# Altium footprint library hri_hand.PcbLib: 12 footprints
Each footprint in its own frame and in the unit in brackets; x right, y up, seen from the top. Pads: shape width x height; smd on the part's side, far side on the other; paste and mask are expansions set on the pad; w line width, h text height; cw(c..) or ccw(c..) is an arc to the next point about the centre after c.
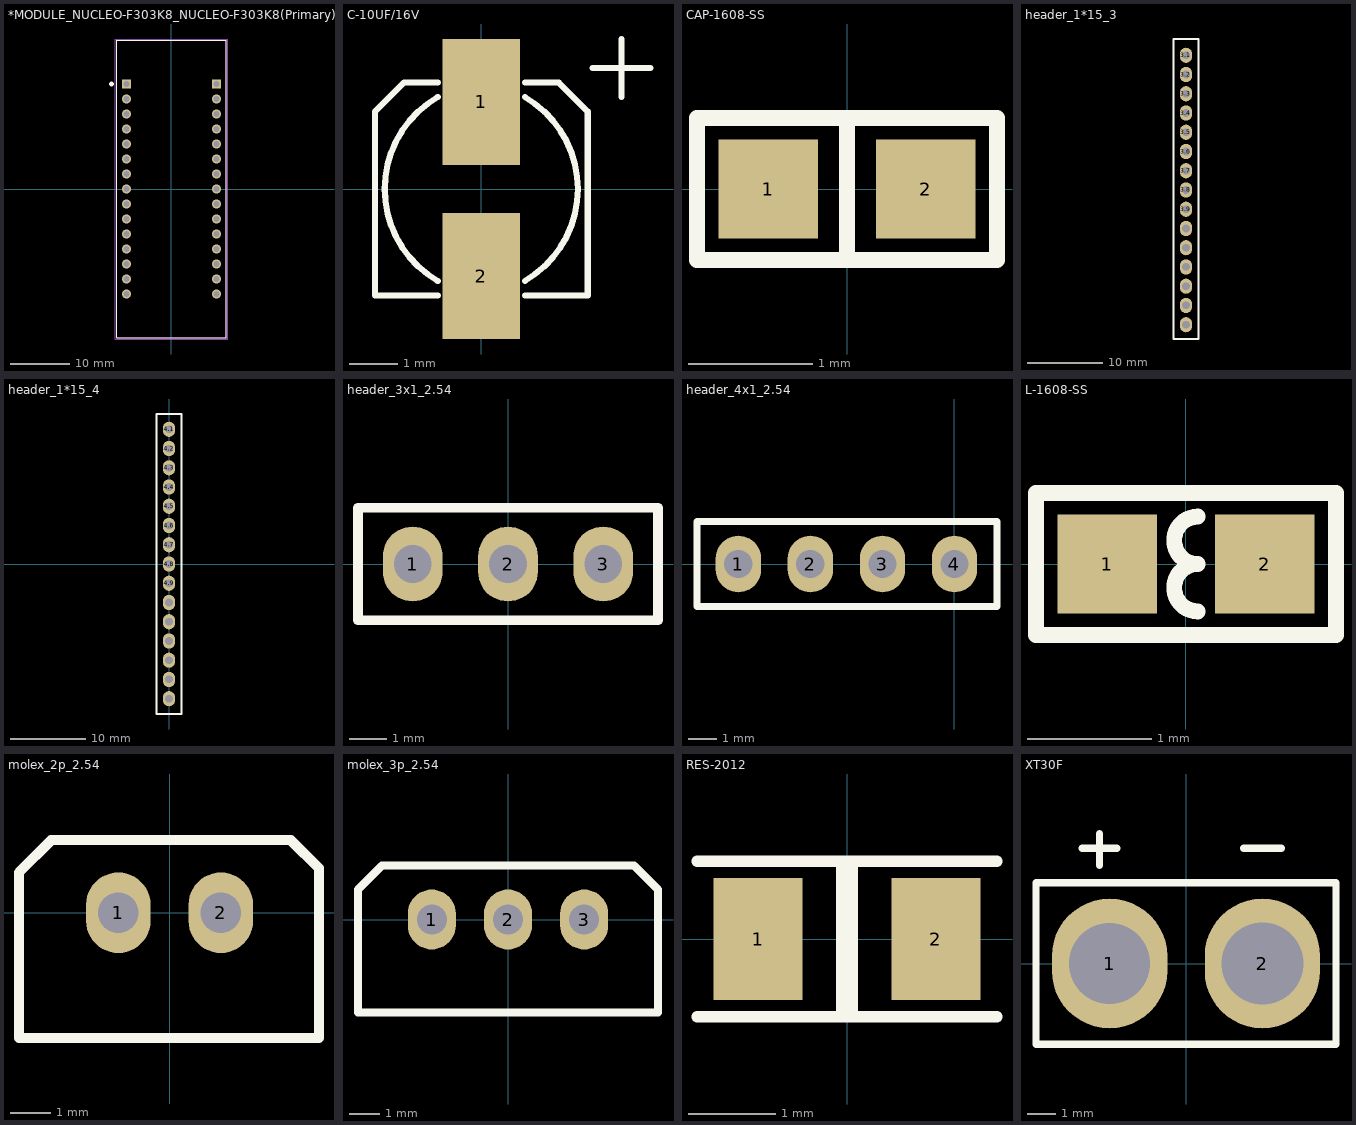
[diagram p0: the footprints below, top view; thin cyan lines are the x and y axes]

## *MODULE_NUCLEO-F303K8_NUCLEO-F303K8(Primary) [mm]
pads (30):
  rect 1.53x1.53 hole 1.02: 3.1(-7.62,17.78) 4.1(7.62,17.78)
  round 1.53 hole 1.02: 3.2(-7.62,15.24) 3.3(-7.62,12.7) 3.4(-7.62,10.16) 3.5(-7.62,7.62) 3.6(-7.62,5.08) 3.7(-7.62,2.54) 3.8(-7.62,0) 3.9(-7.62,-2.54) 3.10(-7.62,-5.08) 3.11(-7.62,-7.62) 3.12(-7.62,-10.16) 3.13(-7.62,-12.7) 3.14(-7.62,-15.24) 3.15(-7.62,-17.78) 4.2(7.62,15.24) 4.3(7.62,12.7) 4.4(7.62,10.16) 4.5(7.62,7.62) 4.6(7.62,5.08) 4.7(7.62,2.54) 4.8(7.62,0) 4.9(7.62,-2.54) 4.10(7.62,-5.08) 4.11(7.62,-7.62) 4.12(7.62,-10.16) 4.13(7.62,-12.7) 4.14(7.62,-15.24) 4.15(7.62,-17.78)
Top Overlay:
  circle w0.4: c-10.16,17.78 r0.2
  lines w0.127: -9.27,-25.145 9.27,-25.145 9.27,25.145 -9.27,25.145 -9.27,-25.145
Mechanical 4:
  lines w0.127: -9.27,-25.145 9.27,-25.145 ; -9.27,-25.145 -9.27,25.145 ; -9.27,-25.145 9.27,-25.145 ; -9.27,-25.145 -9.27,25.145 ; -9.27,25.145 9.27,25.145 ; -9.27,25.145 9.27,25.145 ; 9.27,-25.145 9.27,25.145 ; 9.27,-25.145 9.27,25.145
Mechanical 16:
  lines w0.05: -9.52,-25.395 9.52,-25.395 9.52,25.395 -9.52,25.395 -9.52,-25.395

## C-10UF/16V [mm]
height 5.3
pads (2):
  rect 1.6x2.6 smd: 1(0,1.8) 2(0,-1.8)
Top Overlay:
  lines w0.127: -0.9,-2.2 -2.2,-2.2 -2.2,1.6 -1.6,2.2 -0.9,2.2 ; -0.9,-1.9 cw(c0.2,0) -0.9,1.9 ; 0.9,-2.2 2.2,-2.2 2.2,1.6 1.6,2.2 0.9,2.2 ; 0.9,-1.9 ccw(c-0.2,0) 0.9,1.9 ; 2.3,2.5 3.5,2.5 ; 2.9,1.9 2.9,3.1
3D body "SW3dPS-capacitor size B.STEP": height 5.41, standoff -0.01, extent -2.15,-2.3 2.15,2.3

## CAP-1608-SS [mm]
pads (2):
  rect 0.8x0.8 smd: 1(-0.635,0) 2(0.635,0)
Top Overlay:
  lines w0.127: 0,-0.572 0,0.572 ; -1.206,-0.572 1.206,-0.572 1.206,0.572 -1.206,0.572 -1.206,-0.572
3D body "User Library-0603(1608M) Cap.STEP": height 0.79, standoff 0, extent -1,-0.394 1,0.394

## header_1*15_3 [mm]
pads (15):
  oval 1.6x2 hole 1: 3.1(1270,1270) 3.2(1270,1267.46) 3.3(1270,1264.92) 3.4(1270,1262.38) 3.5(1270,1259.84) 3.6(1270,1257.3) 3.7(1270,1254.76) 3.8(1270,1252.22) 3.9(1270,1249.68) 3.10(1270,1247.14) 3.11(1270,1244.6) 3.12(1270,1242.06) 3.13(1270,1239.52) 3.14(1270,1236.98) 3.15(1270,1234.44)
Top Overlay:
  lines w0.254: 1268.35,1232.55 1268.35,1272.15 1271.65,1272.15 1271.65,1232.55 1268.35,1232.55

## header_1*15_4 [mm]
pads (15):
  oval 1.6x2 hole 1: 4.1(0,17.78) 4.2(0,15.24) 4.3(0,12.7) 4.4(0,10.16) 4.5(0,7.62) 4.6(0,5.08) 4.7(0,2.54) 4.8(0,0) 4.9(0,-2.54) 4.10(0,-5.08) 4.11(0,-7.62) 4.12(0,-10.16) 4.13(0,-12.7) 4.14(0,-15.24) 4.15(0,-17.78)
Top Overlay:
  lines w0.254: -1.65,-19.8 -1.65,19.8 1.65,19.8 1.65,-19.8 -1.65,-19.8

## header_3x1_2.54 [mm]
pads (3):
  oval 1.6x2 hole 1: 1(-2.54,0) 2(0,0) 3(2.54,0)
Top Overlay:
  lines w0.254: -4,-1.5 4,-1.5 4,1.5 -4,1.5 -4,-1.5

## header_4x1_2.54 [mm]
pads (4):
  oval 1.6x2 hole 1: 1(-7.62,0) 2(-5.08,0) 3(-2.54,0) 4(0,0)
Top Overlay:
  lines w0.254: -9.08,-1.5 -1.08,-1.5 1.5,-1.5 1.5,1.5 -1.08,1.5 -9.08,1.5 -9.08,-1.5

## L-1608-SS [mm]
pads (2):
  rect 0.8x0.8 smd: 1(-0.635,0) 2(0.635,0)
Top Overlay:
  lines w0.127: 0.095,-0.381 cw(c0.095,-0.191) 0.095,0 cw(c0.095,0.191) 0.095,0.381 ; -1.206,-0.572 -1.206,0.572 1.206,0.572 1.207,-0.571 -1.206,-0.572
3D body "User Library-Chip InductorINDC1608X95N.STEP": height 0.83, standoff 0.03, extent -0.8,-0.475 0.8,0.475

## molex_2p_2.54 [mm] "MOLEX 5267"
height 6
pads (2):
  oval 1.6x2 hole 1: 1(-1.27,0) 2(1.27,0)
Top Overlay:
  lines w0.254: -3.73,-3.1 -3.73,0 -3.73,1 -2.93,1.8 3,1.8 3.7,1.1 3.7,-2.57 3.7,-3.1 -3.73,-3.1
3D body "022035025.stp": height 5.95, standoff -3.45, extent -3.7,-3.07 3.7,1.83

## molex_3p_2.54 [mm] "MOLEX 5267"
height 6
pads (3):
  oval 1.6x2 hole 1: 1(-2.54,0) 2(0,0) 3(2.54,0)
Top Overlay:
  lines w0.254: -5,-3.1 5,-3.1 5,0 5,1 4.2,1.8 -4.2,1.8 -5,1 -5,0 -5,-3.1
3D body "022035035.stp": height 5.95, standoff -3.45, extent -4.95,-3.07 4.95,1.83

## RES-2012 [mil]
pads (2):
  rect 40x55 smd: 1(-40,0) 2(40,0)
Top Overlay:
  lines w5: -67.5,-35 67.5,-35 ; -67.5,35 67.5,35 ; -2.5,-35 -2.5,35 ; 2.5,-35 2.5,35
3D body "User Library-0805(2012M) Res.STEP": height 31.1, standoff 0, extent -49.38,-25 49.38,24

## XT30F [mm]
pads (2):
  oval 4x4.5 hole 2.8: 1(-2.65,0)
  oval 4x4.5 hole 2.85: 2(2.65,0)
Top Overlay:
  lines w0.254: -3.6,4 -2.4,4 ; -3,3.4 -3,4.5 ; 2,4 3.3,4 ; -5.2,-2.8 -5.2,2.8 5.2,2.8 5.2,-2.8 -5.2,-2.8
3D body "XT30_F.step": height 12.6, standoff -3, extent -5.325,-2.6 5.125,2.65